# Altium schematic symbol library MAX17048G+T10.SchLib: 1 symbol
Pins are listed as number, name and electrical type; pins without a type are passive.

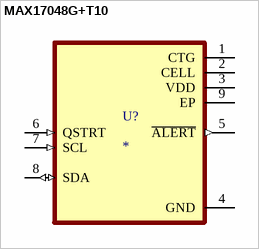
[diagram p0: symbol MAX17048G+T10]

## MAX17048G+T10
designator U?
Polymer 1 DFN-8-EP(2x2) Battery Management ICs ROHS; Mfr. Part #: MAX17048G+T10; Manufacturer: Analog Devices Inc./Maxim Integrated; LCSC Part #: C2682616; Package: DFN-8-EP(2x2); Datasheet: chrome-extension://efaidnbmnnnibpcajpcglclefindmkaj/https://datasheet.lcsc.com/lcsc/2106070437_Analog-Devices-Inc--Maxim-Integrated-MAX17048G-T10_C2682616.pdf; Packaging: Tape & Reel (TR)
footprint MAX17048G+T10
pins: 1 CTG (power), 2 CELL (power), 3 VDD (power), 4 GND (power), 5 ~{ALERT} (out), 6 QSTRT (in), 7 SCL (in), 8 SDA (io), 9 EP (power)